# EAGLE library part SN74LVC2T45DCUT (library 74lvc2t45)
DUAL-BIT DUAL-SUPPLY BUS TRANSCEIVER WITH CONFIGURABLE VOLTAGE TRANSLATION AND 3-STATE OUTPUTS
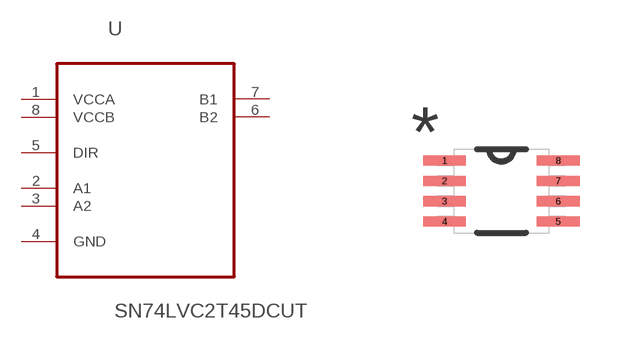
[diagram p0: symbol with the pads of SOP50P310X90-8N; footprint SOP50P310X90-8N]

Designator prefix U

## SN74LVC2T45DCUT (MPN: SN74LVC2T45DCUT; OC_FARNELL: 9592768; OC_NEWARK: 01J0800; PACKAGE: SOP-8; SUPPLIER: Texas Instruments)  [SOP50P310X90-8N]
1  VCCA  pwr
2  A1
3  A2
4  GND  pas
5  DIR  in
6  B2
7  B1
8  VCCB  pwr

## Footprint SOP50P310X90-8N (pad centres in mm)
smd 1.067 x 0.254: 1 -1.422,0.762; 2 -1.422,0.254; 3 -1.422,-0.254; 4 -1.422,-0.762; 5 1.422,-0.762; 6 1.422,-0.254; 7 1.422,0.254; 8 1.422,0.762